# Altium schematic symbol library CN 3POS JST B3B-ZR.Schlib: 1 symbol
Pins are listed as number, name and electrical type; pins without a type are passive.

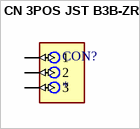
[diagram p0: symbol CN 3POS JST B3B-ZR]

## CN 3POS JST B3B-ZR
designator CON?
Connector Header Through Hole 3 position 0.059 (1.50mm); MP: B3B-ZR; MF: JST Sales; Price: $0.18; Package: Bulk; SnapEDA_Link: https://www.snapeda.com/parts/B3B-ZR/JST%20Sales%20America%20Inc./view-part/496625/?ref=snap; Value: *; ComponentLink1Description: Digikey Link; ComponentLink1URL: https://www.digikey.com/en/products/detail/jst-sales-america-inc/B3B-ZR(LF)(SN)/926565?utm_source=snapeda&utm_medium=aggregator&utm_campaign=buynow; Digikey: 455-1658-ND
footprint CN 3POS JST B3B-ZR
pins: 1 (io), 2 (io), 3 (io)